# EAGLE library part AMPHENOL_SIM (library laforge)
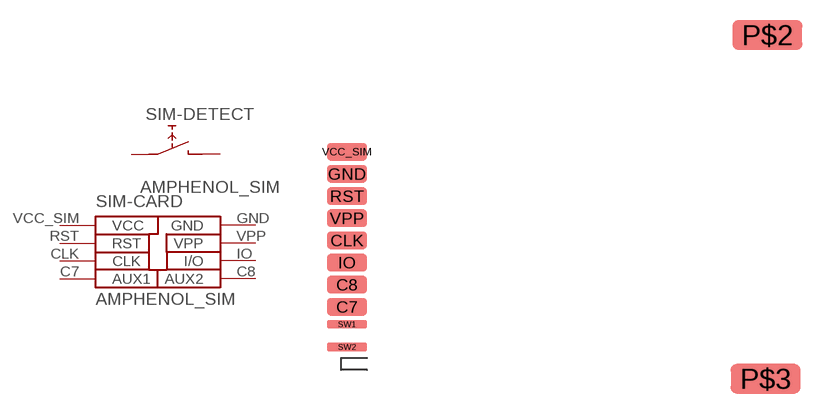
[diagram p1: symbol with the pads of AMPHENOL_SIM; footprint AMPHENOL_SIM]

Designator prefix SIM; gates -CARD=SIM -DETECT=SIM_SW_NO

## AMPHENOL_SIM (OC_DIGIKEY: 101-00271-82-1-ND)  [AMPHENOL_SIM]
C7  -CARD:AUX1
C8  -CARD:AUX2
CLK  -CARD:CLK  in
GND  -CARD:GND
IO  -CARD:I/O
RST  -CARD:RST  in
SW1  -DETECT:0  pas
SW2  -DETECT:1  pas
VCC_SIM  -CARD:VCC  pwr
VPP  -CARD:VPP  pwr

## Footprint AMPHENOL_SIM (pad centres in mm)
smd 2.3 x 1: C7 1.15,-8.89; C8 1.15,-7.62; CLK 1.15,-5.08; GND 1.15,-1.27; IO 1.15,-6.35; RST 1.15,-2.54; VCC_SIM 1.15,0; VPP 1.15,-3.81
smd 4 x 1.7: P$2 25.25,6.69; P$3 25.15,-13.01
smd 2.3 x 0.5: SW1 1.15,-9.89; SW2 1.15,-11.19